# Altium footprint library PcbLib1.PcbLib: 64 footprints (part 3 of 4)
Each footprint in its own frame and in the unit in brackets; x right, y up, seen from the top. Pads: shape width x height; smd on the part's side, far side on the other; paste and mask are expansions set on the pad; w line width, h text height; cw(c..) or ccw(c..) is an arc to the next point about the centre after c.
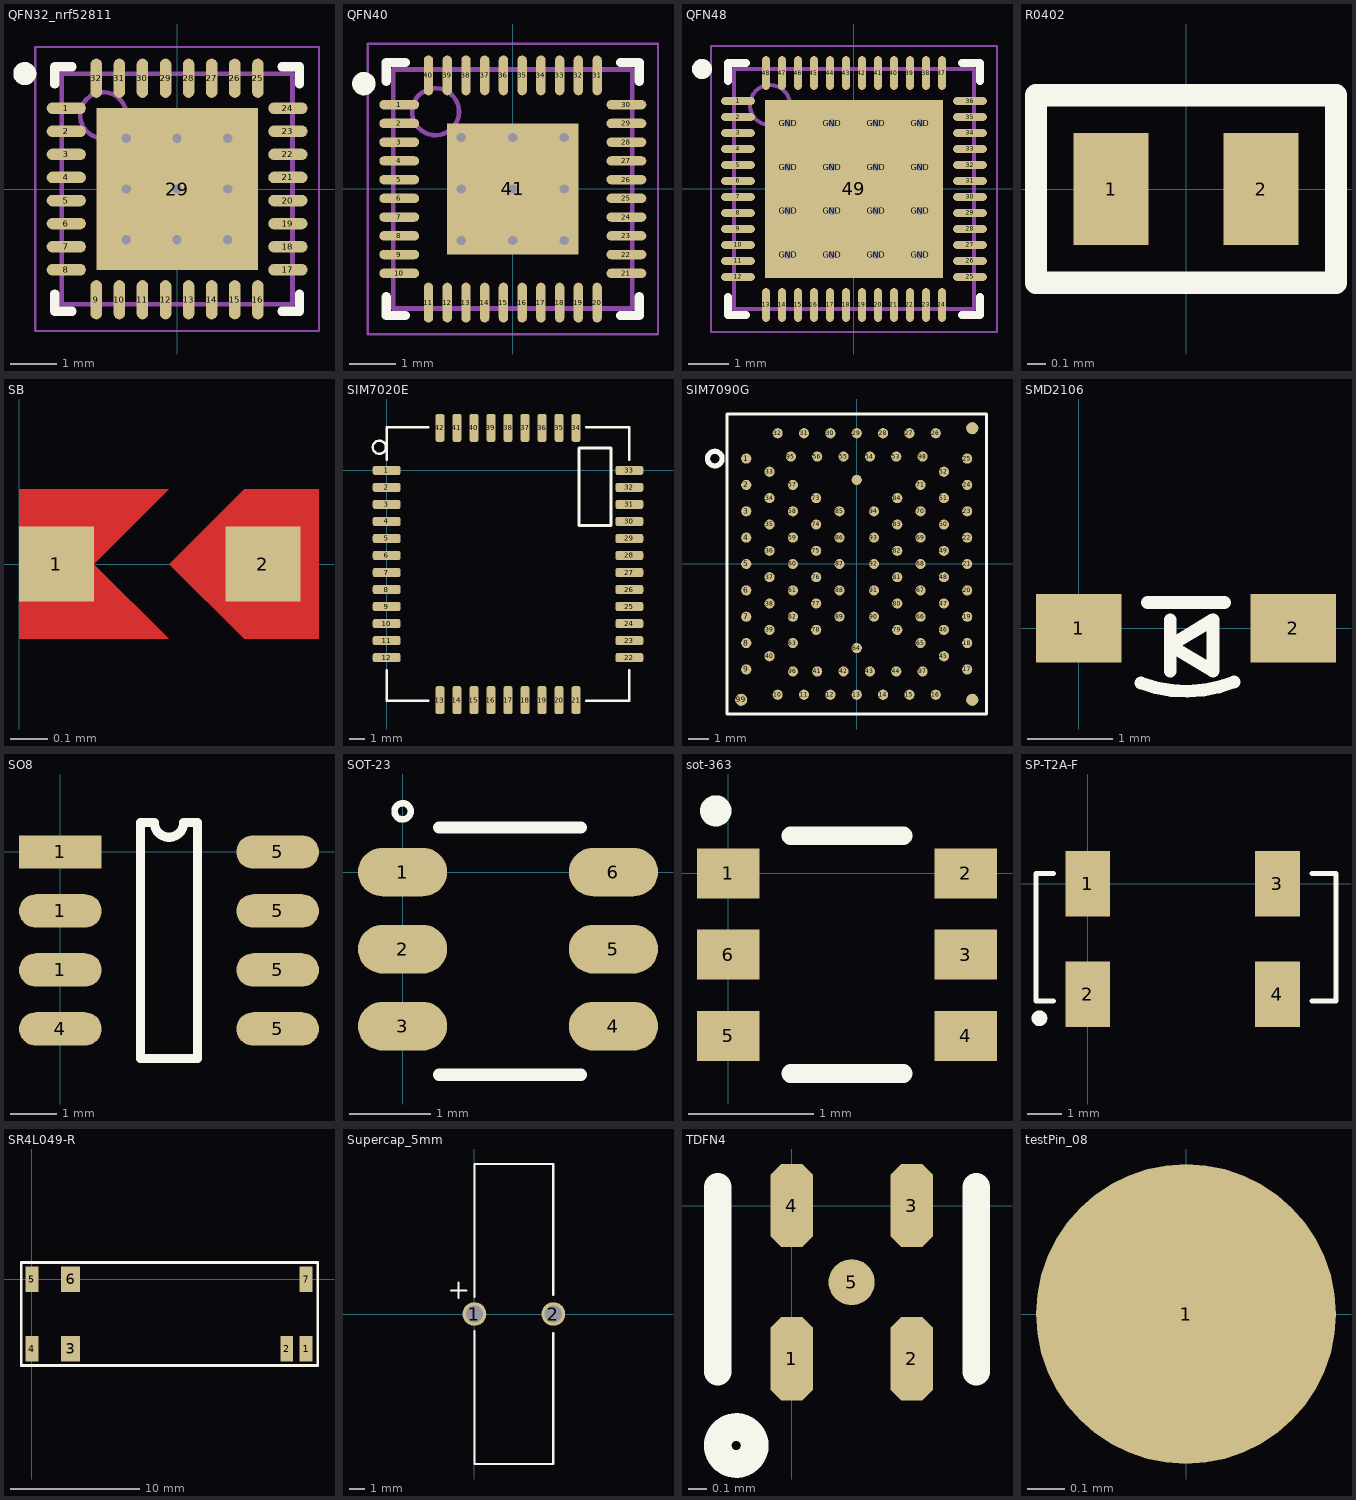
[diagram p2: the footprints below, top view; thin cyan lines are the x and y axes]

## QFN32_nrf52811 [mm]
height 0.9
pads (33):
  oval 0.85x0.25 smd: 1(-2.4,1.75) 2(-2.4,1.25) 3(-2.4,0.75) 4(-2.4,0.25) 5(-2.4,-0.25) 6(-2.4,-0.75) 7(-2.4,-1.25) 8(-2.4,-1.75) 17(2.4,-1.75) 18(2.4,-1.25) 19(2.4,-0.75) 20(2.4,-0.25) 21(2.4,0.25) 22(2.4,0.75) 23(2.4,1.25) 24(2.4,1.75)
  oval 0.25x0.85 smd: 9(-1.75,-2.4) 10(-1.25,-2.4) 11(-0.75,-2.4) 12(-0.25,-2.4) 13(0.25,-2.4) 14(0.75,-2.4) 15(1.25,-2.4) 16(1.75,-2.4) 25(1.75,2.4) 26(1.25,2.4) 27(0.75,2.4) 28(0.25,2.4) 29(-0.25,2.4) 30(-0.75,2.4) 31(-1.25,2.4) 32(-1.75,2.4)
  rect 3.5x3.5 smd: 29(0,0)
via 1.1,1.1 diameter 0.5 hole 0.2
via 0,1.1 diameter 0.5 hole 0.2
via -1.1,1.1 diameter 0.5 hole 0.2
via -1.1,0 diameter 0.5 hole 0.2
via 1.1,0 diameter 0.5 hole 0.2
via 0,0 diameter 0.5 hole 0.2
via -1.1,-1.1 diameter 0.5 hole 0.2
via 0,-1.1 diameter 0.5 hole 0.2
via 1.1,-1.1 diameter 0.5 hole 0.2
Top Overlay:
  circle w0.25: c-3.3,2.5 r0.125
  lines w0.2: -2.65,-2.275 -2.65,-2.65 -2.275,-2.65 ; -2.65,2.275 -2.65,2.65 -2.275,2.65 ; 2.275,-2.65 2.65,-2.65 2.65,-2.275 ; 2.275,2.65 2.65,2.65 2.65,2.275
Mechanical 13:
  circle w0.1: c-1.6,1.6 r0.5
  lines w0.1: -2.5,-2.5 2.5,-2.5 2.5,2.5 -2.5,2.5 -2.5,-2.5
Mechanical 15:
  lines w0.05: -3.075,-3.075 3.075,-3.075 3.075,3.075 -3.075,3.075 -3.075,-3.075
  lines w0.1: -0.5,0 0.5,0 ; 0,-0.5 0,0.5
3D body: height 0.9, standoff 0.05, extent -2.5,-2.5 2.5,2.5

## QFN40 [mm]
height 0.9
pads (41):
  oval 0.85x0.2 smd: 1(-2.425,1.8) 2(-2.425,1.4) 3(-2.425,1) 4(-2.425,0.6) 5(-2.425,0.2) 6(-2.425,-0.2) 7(-2.425,-0.6) 8(-2.425,-1) 9(-2.425,-1.4) 10(-2.425,-1.8) 21(2.425,-1.8) 22(2.425,-1.4) 23(2.425,-1) 24(2.425,-0.6) 25(2.425,-0.2) 26(2.425,0.2) 27(2.425,0.6) 28(2.425,1) 29(2.425,1.4) 30(2.425,1.8)
  oval 0.2x0.85 smd: 11(-1.8,-2.425) 12(-1.4,-2.425) 13(-1,-2.425) 14(-0.6,-2.425) 15(-0.2,-2.425) 16(0.2,-2.425) 17(0.6,-2.425) 18(1,-2.425) 19(1.4,-2.425) 20(1.8,-2.425) 31(1.8,2.425) 32(1.4,2.425) 33(1,2.425) 34(0.6,2.425) 35(0.2,2.425) 36(-0.2,2.425) 37(-0.6,2.425) 38(-1,2.425) 39(-1.4,2.425) 40(-1.8,2.425)
  rect 2.8x2.8 smd: 41(0,0)
via 1.1,-1.1 diameter 0.5 hole 0.2
via 0,-1.1 diameter 0.5 hole 0.2
via -1.1,-1.1 diameter 0.5 hole 0.2
via 1.1,0 diameter 0.5 hole 0.2
via 0,0 diameter 0.5 hole 0.2
via -1.1,0 diameter 0.5 hole 0.2
via 1.1,1.1 diameter 0.5 hole 0.2
via 0,1.1 diameter 0.5 hole 0.2
via -1.1,1.1 diameter 0.5 hole 0.2
Top Overlay:
  circle w0.25: c-3.18,2.25 r0.125
  lines w0.2: -2.7,-2.3 -2.7,-2.7 -2.3,-2.7 ; -2.7,2.3 -2.7,2.7 -2.3,2.7 ; 2.3,-2.7 2.7,-2.7 2.7,-2.3 ; 2.3,2.7 2.7,2.7 2.7,2.3
Mechanical 13:
  circle w0.1: c-1.65,1.65 r0.5
  lines w0.1: -2.55,-2.55 2.55,-2.55 2.55,2.55 -2.55,2.55 -2.55,-2.55
Mechanical 15:
  lines w0.05: -3.1,-3.1 3.1,-3.1 3.1,3.1 -3.1,3.1 -3.1,-3.1
  lines w0.1: -0.5,0 0.5,0 ; 0,-0.5 0,0.5
3D body: height 0.9, standoff 0.05, extent -2.55,-2.55 2.55,2.55

## QFN48 [mm]
height 0.9
pads (65):
  oval 0.85x0.2 smd: 1(-2.9,2.2) 2(-2.9,1.8) 3(-2.9,1.4) 4(-2.9,1) 5(-2.9,0.6) 6(-2.9,0.2) 7(-2.9,-0.2) 8(-2.9,-0.6) 9(-2.9,-1) 10(-2.9,-1.4) 11(-2.9,-1.8) 12(-2.9,-2.2) 25(2.9,-2.2) 26(2.9,-1.8) 27(2.9,-1.4) 28(2.9,-1) 29(2.9,-0.6) 30(2.9,-0.2) 31(2.9,0.2) 32(2.9,0.6) 33(2.9,1) 34(2.9,1.4) 35(2.9,1.8) 36(2.9,2.2)
  oval 0.2x0.85 smd: 13(-2.2,-2.9) 14(-1.8,-2.9) 15(-1.4,-2.9) 16(-1,-2.9) 17(-0.6,-2.9) 18(-0.2,-2.9) 19(0.2,-2.9) 20(0.6,-2.9) 21(1,-2.9) 22(1.4,-2.9) 23(1.8,-2.9) 24(2.2,-2.9) 37(2.2,2.9) 38(1.8,2.9) 39(1.4,2.9) 40(1,2.9) 41(0.6,2.9) 42(0.2,2.9) 43(-0.2,2.9) 44(-0.6,2.9) 45(-1,2.9) 46(-1.4,2.9) 47(-1.8,2.9) 48(-2.2,2.9)
  rect 4.45x4.45 smd: 49(0,0)
  round 0.5 hole 0.2: GND(-1.65,-1.65) GND(-1.65,-0.55) GND(-1.65,0.55) GND(-1.65,1.65) GND(-0.55,-1.65) GND(-0.55,-0.55) GND(-0.55,0.55) GND(-0.55,1.65) GND(0.55,-1.65) GND(0.55,-0.55) GND(0.55,0.55) GND(0.55,1.65) GND(1.65,-1.65) GND(1.65,-0.55) GND(1.65,0.55) GND(1.65,1.65)
Top Overlay:
  circle w0.25: c-3.8,3 r0.125
  lines w0.2: -3.15,-2.7 -3.15,-3.15 -2.7,-3.15 ; -3.15,2.7 -3.15,3.15 -2.7,3.15 ; 2.7,-3.15 3.15,-3.15 3.15,-2.7 ; 2.7,3.15 3.15,3.15 3.15,2.7
Mechanical 13:
  circle w0.1: c-2.1,2.1 r0.5
  lines w0.1: -3,-3 -3,3 3,3 3,-3 -3,-3
Mechanical 15:
  lines w0.05: -3.575,-3.575 -3.575,3.575 3.575,3.575 3.575,-3.575 -3.575,-3.575
  lines w0.1: -0.5,0 0.5,0 ; 0,-0.5 0,0.5
3D body: height 0.9, standoff 0.05, extent -3,-3 3,3

## R0402 [mm]
pads (2):
  rect 0.4x0.6 smd: 1(-0.4,0) 2(0.4,0)
Top Overlay:
  lines w0.12: -0.8,-0.5 0.8,-0.5 0.8,0.5 -0.8,0.5 -0.8,-0.5

## SB [mm]
pads (2):
  rect 0.2x0.2 smd: 1(0.1,0) 2(0.652,0)
Top Layer:
  region: 0.602,0.2 0.402,0 0.602,-0.2 0.802,-0.2 0.802,0.2
  pour cut-out: 0,0 0,0.2
  region: 0,0.2 0.4,0.2 0.2,0 0.4,-0.2 0,-0.2

## SIM7020E [mm]
pads (42):
  rrect50% 1.8x0.6 smd: 1(0,0) 2(0,-1.1) 3(0,-2.2) 4(0,-3.3) 5(0,-4.4) 6(0,-5.5) 7(0,-6.6) 8(0,-7.7) 9(0,-8.8) 10(0,-9.9) 11(0,-11) 12(0,-12.1) 22(15.7,-12.1) 23(15.7,-11) 24(15.7,-9.9) 25(15.7,-8.8) 26(15.7,-7.7) 27(15.7,-6.6) 28(15.7,-5.5) 29(15.7,-4.4) 30(15.7,-3.3) 31(15.7,-2.2) 32(15.7,-1.1) 33(15.7,0)
  rrect50% 0.6x1.8 smd: 13(3.45,-14.85) 14(4.55,-14.85) 15(5.65,-14.85) 16(6.75,-14.85) 17(7.85,-14.85) 18(8.95,-14.85) 19(10.05,-14.85) 20(11.15,-14.85) 21(12.25,-14.85) 34(12.25,2.75) 35(11.15,2.75) 36(10.05,2.75) 37(8.95,2.75) 38(7.85,2.75) 39(6.75,2.75) 40(5.65,2.75) 41(4.55,2.75) 42(3.45,2.75)
Top Overlay:
  circle w0.15: c-0.47,1.5 r0.424
  lines w0.15: 0,-12.9 0,-14.9 2.7,-14.9 ; 0,0.7 0,2.8 2.7,2.8 ; 12.9,-14.9 15.7,-14.9 15.7,-12.9 ; 12.9,2.8 15.7,2.8 15.7,0.7
  lines w0.2: 12.45,-3.56 12.45,1.44 14.5,1.44 14.5,-3.56 12.45,-3.56

## SIM7090G [mm]
pads (101):
  round 0.5 smd: 1(-5.45,5.2) 2(-5.45,3.9) 3(-5.45,2.6) 4(-5.45,1.3) 5(-5.45,0) 6(-5.45,-1.3) 7(-5.45,-2.6) 8(-5.45,-3.9) 9(-5.45,-5.2) 10(-3.9,-6.45) 11(-2.6,-6.45) 12(-1.3,-6.45) 13(0,-6.45) 14(1.3,-6.45) 15(2.6,-6.45) 16(3.9,-6.45) 17(5.45,-5.2) 18(5.45,-3.9) 19(5.45,-2.6) 20(5.45,-1.3) 21(5.45,0) 22(5.45,1.3) 23(5.45,2.6) 24(5.45,3.9) 25(5.45,5.2) 26(3.9,6.45) 27(2.6,6.45) 28(1.3,6.45) 29(0,6.45) 30(-1.3,6.45) 31(-2.6,6.45) 32(-3.9,6.45) 33(-4.3,4.55) 34(-4.3,3.25) 35(-4.3,1.95) 36(-4.3,0.65) 37(-4.3,-0.65) 38(-4.3,-1.95) 39(-4.3,-3.25) 40(-4.3,-4.55) 41(-1.95,-5.3) 42(-0.65,-5.3) 43(0.65,-5.3) 44(1.95,-5.3) 45(4.3,-4.55) 46(4.3,-3.25) 47(4.3,-1.95) 48(4.3,-0.65) 49(4.3,0.65) 50(4.3,1.95) 51(4.3,3.25) 52(4.3,4.55) 53(1.95,5.3) 54(0.65,5.3) 55(-0.65,5.3) 56(-1.95,5.3) 57(-3.15,3.9) 58(-3.15,2.6) 59(-3.15,1.3) 60(-3.15,0) 61(-3.15,-1.3) 62(-3.15,-2.6) 63(-3.15,-3.9) 64(0,-4.15) 65(3.15,-3.9) 66(3.15,-2.6) 67(3.15,-1.3) 68(3.15,0) 69(3.15,1.3) 70(3.15,2.6) 71(3.15,3.9) 73(-2,3.25) 74(-2,1.95) 75(-2,0.65) 76(-2,-0.65) 77(-2,-1.95) 78(-2,-3.25) 79(2,-3.25) 80(2,-1.95) 81(2,-0.65) 82(2,0.65) 83(2,1.95) 84(2,3.25) 85(-0.85,2.6) 86(-0.85,1.3) 87(-0.85,0) 88(-0.85,-1.3) 89(-0.85,-2.6) 90(0.85,-2.6) 91(0.85,-1.3) 92(0.85,0) 93(0.85,1.3) 94(0.85,2.6) 95(-3.25,5.3) 96(-3.15,-5.3) 97(3.25,-5.3) 98(3.25,5.3) 129(0,4.15)
  round 0.6 smd: 99(-5.7,-6.7) 100(5.7,-6.7) 101(5.7,6.7)
Top Overlay:
  circle w0.254: c-7,5.2 r0.361
  lines w0.15: -6.4,-7.4 6.4,-7.4 6.4,7.4 -6.4,7.4 -6.4,-7.4
3D body: height 1.85, standoff 0, extent -6.4,-7.4 6.4,7.4

## SMD2106 [mm]
pads (2):
  rect 1x0.8 smd: 1(0,0) 2(2.5,0)
Top Overlay:
  lines w0.15: 0.723,-0.638 ccw(c1.25,0.75) 1.81,-0.625 ; 0.8,0.3 1.7,0.3 ; 1.067,-0.5 1.067,0.1 ; 1.067,-0.2 1.567,-0.5 1.567,0.1 1.067,-0.2

## SO8 [mm]
pads (8):
  oval 1.78x0.72 smd: 1(0,-2.54) 1(0,-1.27) 4(0,-3.81) 5(4.68,-3.81) 5(4.68,-2.54) 5(4.68,-1.27) 5(4.68,0)
  rect 1.78x0.72 smd: 1(0,0)
Top Overlay:
  lines w0.2: 1.725,-4.445 1.725,0.635 2.023,0.635 ccw(c2.34,0.635) 2.658,0.635 2.955,0.635 2.955,-4.445 1.725,-4.445

## SOT-23 [mm]
pads (6):
  oval 1.1x0.6 smd: 1(0,0) 2(0,-0.95) 3(0,-1.9) 4(2.6,-1.9) 5(2.6,-0.95) 6(2.6,0)
Top Overlay:
  circle w0.08: c0,0.75 r0.1
  lines w0.15: 0.45,-2.5 2.2,-2.5 ; 0.45,0.55 2.2,0.55
3D body: height 1.1, standoff 0, extent 0.45,-2.5 2.2,0.55

## sot-363 [mm]
pads (6):
  rect 0.5x0.4 smd: 1(0,0) 2(1.9,0) 3(1.9,-0.65) 4(1.9,-1.3) 5(0,-1.3) 6(0,-0.65)
Top Overlay:
  circle w0.15: c-0.1,0.5 r0.05
  lines w0.15: 0.5,-1.6 1.4,-1.6 ; 0.5,0.3 1.4,0.3

## SP-T2A-F [mm]
pads (4):
  rect 1.3x1.9 smd: 1(0,0) 2(0,-3.2) 3(5.5,0) 4(5.5,-3.2)
Top Overlay:
  circle w0.254: c-1.4,-3.9 r0.1
  lines w0.15: -1,-3.4 -1.5,-3.4 -1.5,0.3 -1,0.3 ; 6.5,-3.4 7.2,-3.4 7.2,0.3 6.5,0.3

## SR4L049-R [mm]
pads (7):
  rect 1x2 smd: 1(21.3,-5.4) 2(19.8,-5.4) 4(0,-5.4) 5(0,0) 7(21.3,0)
  rect 1.5x2 smd: 3(3,-5.4) 6(3,0)
Top Overlay:
  lines w0.2: -0.809,-6.701 22.191,-6.701 22.191,1.299 -0.809,1.299 -0.809,-6.701

## Supercap_5mm [mm]
pads (2):
  round 1.5 hole 1.1: 1(0,0) 2(5,0)
Top Overlay:
  lines w0.12: -1.5,1.5 -0.5,1.5 -1,1.5 -1,1 -1,2 ; 0,-9.5 5,-9.5 ; 0,9.5 5,9.5
  lines w0.15: 0,-9.5 0,-1.1 ; 0,1.1 0,9.5 ; 5,-9.5 5,-1.2 ; 5,1.2 5,9.5

## TDFN4 [mm]
pads (5):
  oct 0.23x0.45 smd: 1(0,-0.83) 2(0.65,-0.83) 3(0.65,0) 4(0,0)
  round 0.25 smd: 5(0.325,-0.415)
Top Overlay:
  circle w0.15: c-0.3,-1.3 r0.1
  lines w0.15: -0.4,-0.9 -0.4,0.1 ; 1,-0.9 1,0.1

## testPin_08 [mm]
pads (1):
  round 0.8 smd: 1(0,0)